# EAGLE library part EFM8UB10F16G-C-QFN20 (library PP_DigitalIC)
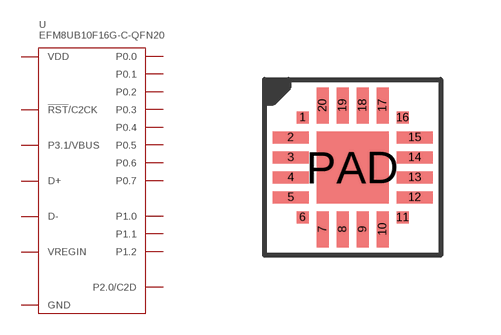
[diagram p37: symbol with the pads of EFM8UB10F16G-C-QFN20; footprint EFM8UB10F16G-C-QFN20]

Designator prefix U

## EFM8UB10F16G-C-QFN20  [EFM8UB10F16G-C-QFN20]
1  P0.1
2  P0.0
3  GND
4  D+
5  D-
6  VDD
7  VREGIN
8  P3.1/VBUS
9  !RST!/C2CK
10  P2.0/C2D
11  P1.2
12  GND
13  P1.1
14  P1.0
15  P0.7
16  P0.6
17  P0.5
18  P0.4
19  P0.3
20  P0.2
PAD  GND

## Footprint EFM8UB10F16G-C-QFN20 (pad centres in mm)
smd 0.3 x 0.3: 1 -1.25,1.25; 6 -1.25,-1.25; 11 1.25,-1.25; 16 1.25,1.25
smd 0.9 x 0.3: 2 -1.55,0.75; 3 -1.55,0.25; 4 -1.55,-0.25; 5 -1.55,-0.75; 12 1.55,-0.75; 13 1.55,-0.25; 14 1.55,0.25; 15 1.55,0.75
smd 0.3 x 0.9: 7 -0.75,-1.55; 8 -0.25,-1.55; 9 0.25,-1.55; 10 0.75,-1.55; 17 0.75,1.55; 18 0.25,1.55; 19 -0.25,1.55; 20 -0.75,1.55
smd 1.8 x 1.8: PAD 0,0